# EAGLE library part ISO124P (library ISO124P)
Isolating amplifier,ISO124P DIP16 1500V Source: Datasheet <http://componentsearchengine.com/Datasheets/1/ISO124P.pdf>
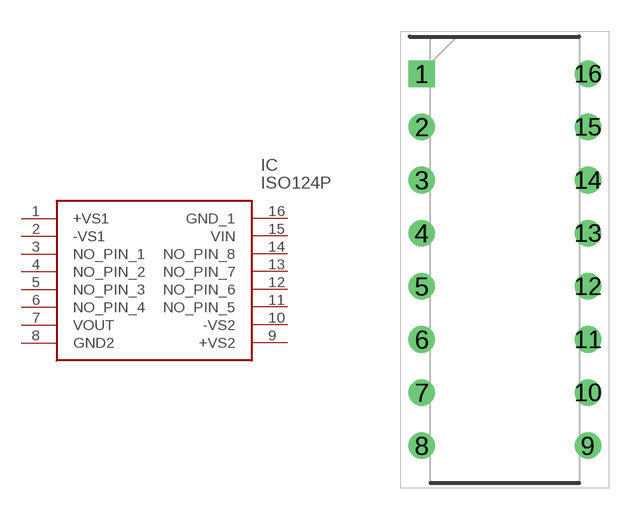
[diagram p0: symbol with the pads of DIP794W56P254L2000H533Q16N; footprint DIP794W56P254L2000H533Q16N]

Designator prefix IC

## ISO124P (Description: Isolating amplifier,ISO124P DIP16 1500V; Height: 5.33mm; Manufacturer_Name: Texas Instruments; Manufacturer_Part_Number: ISO124P; Mouser_Part_Number: 595-ISO124P; Mouser_Price-Stock: https://www.mouser.co.uk/ProductDetail/Texas-Instruments/ISO124P?qs=VBduBm9rCJRWjOmDxakXgA%3D%3D)  [DIP794W56P254L2000H533Q16N]
1  +VS1
2  -VS1
3  NO_PIN_1
4  NO_PIN_2
5  NO_PIN_3
6  NO_PIN_4
7  VOUT
8  GND2
9  +VS2
10  -VS2
11  NO_PIN_5
12  NO_PIN_6
13  NO_PIN_7
14  NO_PIN_8
15  VIN
16  GND_1

## Footprint DIP794W56P254L2000H533Q16N (pad centres in mm)
NVF (R-PDIP-T8/16)
drill 0.76 pad 1.16 square: 1 -3.97,8.89
drill 0.76 pad 1.16: 2 -3.97,6.35; 3 -3.97,3.81; 4 -3.97,1.27; 5 -3.97,-1.27; 6 -3.97,-3.81; 7 -3.97,-6.35; 8 -3.97,-8.89; 9 3.97,-8.89; 10 3.97,-6.35; 11 3.97,-3.81; 12 3.97,-1.27; 13 3.97,1.27; 14 3.97,3.81; 15 3.97,6.35; 16 3.97,8.89